# EAGLE library part SKY87608 (library schematic)
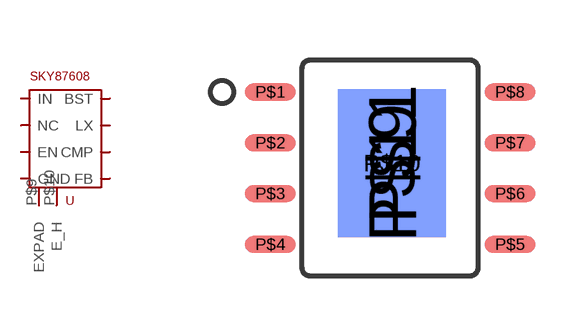
[diagram p18: symbol with the pads of 8PIN-SOP-8L-EP; footprint 8PIN-SOP-8L-EP]

Designator prefix -

## SKY87608  [8PIN-SOP-8L-EP]
P$1  IN
P$2  LX
P$3  NC
P$4  GND
P$5  FB
P$6  CMP
P$7  EN
P$8  BST
P$9  EXPAD
P$10  E_H

## Footprint 8PIN-SOP-8L-EP (pad centres in mm)
smd 1.27 x 0.42: P$1 -3.048,1.778; P$2 -3.048,0.508; P$3 -3.048,-0.762; P$4 -3.048,-2.032; P$5 2.952,-2.032; P$6 2.952,-0.762; P$7 2.952,0.508; P$8 2.952,1.778
smd 2.7 x 3.7: P$9 0,0
drill 0.8: P$10 0,0
smd 2.7 x 3.7 bottom: P$11 0,0